# EAGLE library part MIC29302 (library Elecrow_IC)
High-Current Low-Dropout Regulators http://www.micrel.com/_PDF/mic29150.pdf
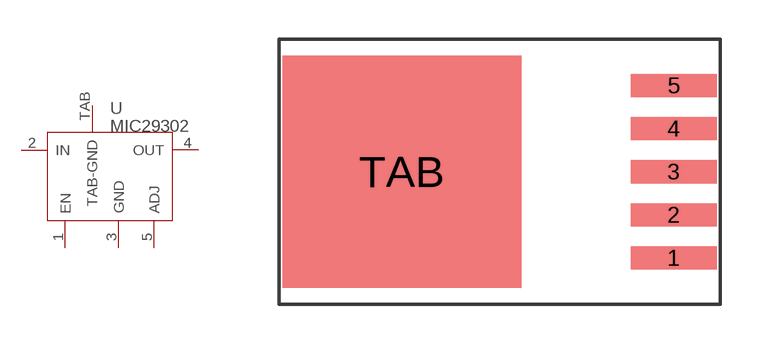
[diagram p14: symbol with the pads of TO-263; footprint TO-263]

Designator prefix U

## MIC29302U  [TO-263]
1  EN
2  IN
3  GND
4  OUT
5  ADJ
TAB  TAB-GND

## Footprint TO-263 (pad centres in mm)
smd 3.302 x 0.889: 1 3.302,-3.302; 2 3.302,-1.651; 3 3.302,0; 4 3.302,1.651; 5 3.302,3.302
smd 9.144 x 8.89: TAB -7.112,0